# EAGLE library part RK097-DUAL-ELEMENT (library rezzonics)
SCHEMATIC FOR DUAL POTENTIOMETER
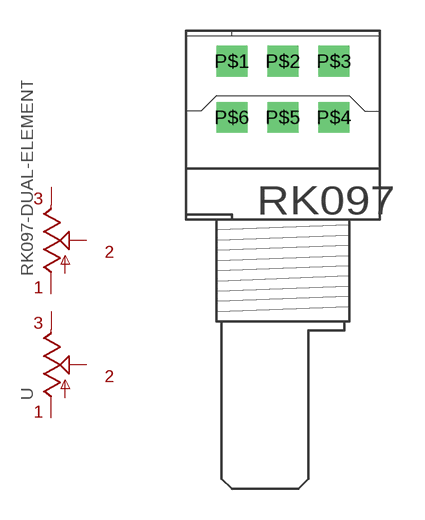
[diagram p24: symbol with the pads of RK097-DUAL-ELEMENT; footprint RK097-DUAL-ELEMENT]

Designator prefix -

## RK097-DUAL-ELEMENT  [RK097-DUAL-ELEMENT]
P$1  A  pas
P$2  A1  pas
P$3  E  pas
P$4  E1  pas
P$5  S  pas
P$6  S1  pas

## Footprint RK097-DUAL-ELEMENT (pad centres in mm)
ALPS RK097 Dual Element D-Shaft
drill 1 pad 1.422 square: P$1 -2.5,2.69; P$2 0,2.69; P$3 2.5,2.69; P$4 2.5,-0.06; P$5 0,-0.06; P$6 -2.5,-0.06